# Altium schematic symbol library NNLightSwitcher_1.SCHLIB: 40 symbols (part 1 of 2)
Pins are listed as number, name and electrical type; pins without a type are passive.

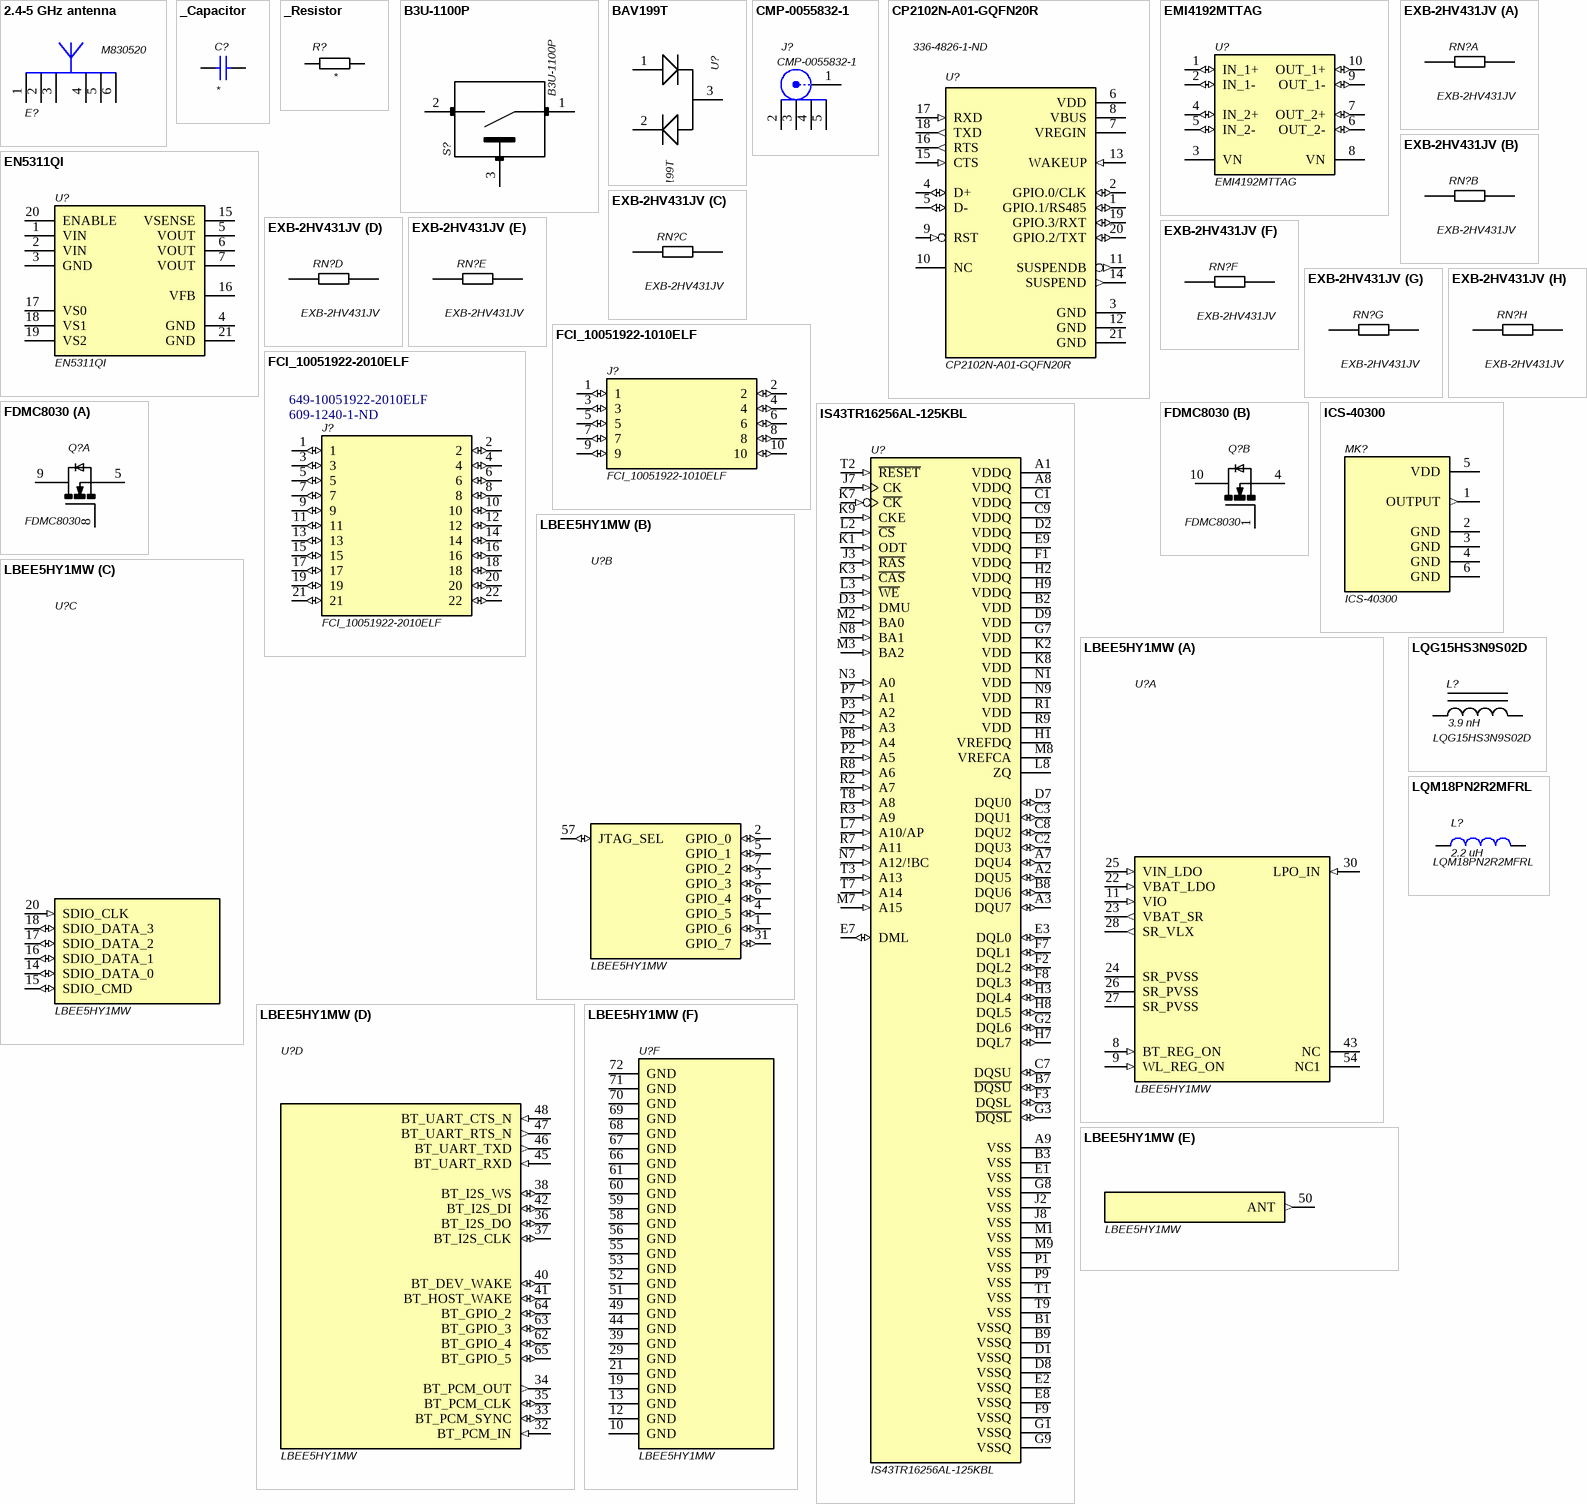
[diagram p0: symbols 2.4-5 GHz antenna to LQM18PN2R2MFRL]

## 2.4-5 GHz antenna
designator E?, comment M830520
WLAN ANTENNA 802.11, SMD; Manufacturer 1: Ethertronics; ComponentLink1Description: Datasheet URL; ComponentLink1URL: http://www.ethertronics.com/files/6014/0708/4228/Savvi_WLAN__8x3_M830510.pdf; Supplier 1: Digi-Key; Manufacturer Part Number 1: M830520; Stock 1: 10391; Pricing 1: 1=2,09000, 10=1,87400, 25=1,76800, 100=1,50630, 250=1,41440, 500=1,23760 (USD); RoHS: No; ComponentLink2URL: https://media.digikey.com/pdf/Data%20Sheets/Ethertronics/M830520.pdf?src-supplier=Digi-Key; ComponentLink2Description: https://media.digikey.com/pdf/Data%20Sheets/Ethertronics/M830520.pdf?src-supplier=Digi-Key; Supplier Part Number 1: 939-1070-1-ND
footprint Ethertronics_M830520 (SMD, 6-Leads, Body 8x3mm)
pins: 1 Feed, 2 GND (power), 3 GND (power), 4 Feed, 5, 6

## _Capacitor
designator C?, comment CC0201JRNPO8BN101  (value not drawn)
CAP, CERM, 100 pF, 25 V,+/- 5%, C0G/NP0, 0201; ComponentLink1Description: Datasheet link; ComponentLink1URL: http://www.yageo.com/documents/recent/UPY-GP_NP0_16V-to-50V_16.pdf; Value: *
footprint *0603
pins: 1, 2

## _Resistor
designator R?
0603 0.1 W Film Chip Resistor; Value: *
footprint *0603
pins: 1, 2

## B3U-1100P
designator S?
Switch Tactile N.O. SPST Projected Plunger PC Pins 0.05A 24VDC 1.47N Thru-Hole Bag; Manufacturer 1: Omron; Mechanical Life: 200000Cycles; Operating Force: 1.5N; Voltage Rating (DC): 12V; Contact Resistance: 100mR; Current Rating: 50mA; Illumination Type: Non-Illuminated,Illuminated; Switch Travel: 0.15mm; Switch Function: Off-Mom; Actuator Type: Standard; Actuator Length: 0.4mm; Ratings: Dust Proof; Supplier 1: Mouser; Manufacturer Part Number 1: B3U-1100P; Stock 1: 10341; Pricing 1: 1=1,00000, 10=0,96100, 25=0,90700, 50=0,79800, 100=0,72600, 250=0,68900, 500=0,61000, 1000=0,52600, 3500=0,51500, 10000=0,51500 (USD); RoHS: Yes; Mount: Surface Mount; Weight: 0.022g; Contact Plating: Silver; Min Operating Temperature: -25°C; Max Operating Temperature: 70°C; Throw Configuration: SPST; Packaging: Tape and Reel; Max Voltage Rating (DC): 12V; Package Quantity: 1; Electrical Life: 200000Cycles; Orientation: Straight; Termination: SMD/SMT; Max Current Rating: 50mA; Contact Current Rating: 50mA; Length: 3.15mm; Depth: 4mm; REACH SVHC: Unknown; Lead Free: Lead Free; ComponentLink1URL: https://datasheet.ciiva.com/1634/60838-1634404.pdf?src-supplier=Farnell; ComponentLink1Description: https://datasheet.ciiva.com/1634/60838-1634404.pdf?src-supplier=Farnell; ComponentLink2URL: https://datasheet.ciiva.com/30197/en-b3u-30197271.pdf?src-supplier=Onlinecomponents.com; ComponentLink2Description: https://datasheet.ciiva.com/30197/en-b3u-30197271.pdf?src-supplier=Onlinecomponents.com; ComponentLink3URL: https://datasheet.ciiva.com/22696/60838-22696216.pdf?src-supplier=Element14; ComponentLink3Description: https://datasheet.ciiva.com/22696/60838-22696216.pdf?src-supplier=Element14; ComponentLink4URL: https://datasheet.ciiva.com/2901/b3u-1110-2901097.pdf?src-supplier=Digi-Key; ComponentLink4Description: https://datasheet.ciiva.com/2901/b3u-1110-2901097.pdf?src-supplier=Digi-Key; ComponentLink5URL: https://datasheet.ciiva.com/2901/b3u-1110-2901098.pdf?src-supplier=Digi-Key; ComponentLink5Description: https://datasheet.ciiva.com/2901/b3u-1110-2901098.pdf?src-supplier=Digi-Key; ComponentLink6URL: https://datasheet.ciiva.com/2901/b3u-1110-2901099.pdf?src-supplier=Digi-Key; ComponentLink6Description: https://datasheet.ciiva.com/2901/b3u-1110-2901099.pdf?src-supplier=Digi-Key; ComponentLink7URL: https://datasheet.ciiva.com/1532/60838-1532684.pdf?src-supplier=Element14; ComponentLink7Description: https://datasheet.ciiva.com/1532/60838-1532684.pdf?src-supplier=Element14; ComponentLink8URL: https://datasheet.ciiva.com/14142/b3u-eng-datasheet-14142541.pdf?src-supplier=Distrelec; ComponentLink8Description: https://datasheet.ciiva.com/14142/b3u-eng-datasheet-14142541.pdf?src-supplier=Distrelec; ComponentLink9URL: https://datasheet.ciiva.com/16155/en-b3u-16155023.pdf?src-supplier=Onlinecomponents.com; ComponentLink9Description: https://datasheet.ciiva.com/16155/en-b3u-16155023.pdf?src-supplier=Onlinecomponents.com; Supplier Part Number 1: 653-B3U-1100P
footprint *SW_B3U-1100P
pins: 1, 2, 3

## BAV199T
designator U?
DIODE, SS, DUAL, 85V, 0.125A, SOT523; Diode Type: Standard Recovery; Forward Current If_AV_: 215mA; Repetitive Revers...; Manufacturer 1: Diodes; Manufacturer Part Number 1: BAS40-04-7-F; MF: Micro Commercial; Forward Current: 200mA; Reverse Recovery Time: 5ns; Peak Non-Repetitive Surge Current: 600mA; Max Repetitive Reverse Voltage (Vrrm): 40V; Forward Voltage: 1V; Capacitance: 5pF; Peak Reverse Current: 200nA; Power Rating: 350mW; Package: SOT-23 Micro Commercial; MP: BAV199T; Availability: Unavailable; Price: None; SnapEDA_Link: https://www.snapeda.com/parts/BAV199T/Micro%20Commercial/view-part/?ref=snap; Value: *; Supplier 1: Mouser; Stock 1: 161984; Pricing 1: 1=0,33000, 10=0,21700, 50=0,21700, 100=0,09300, 1000=0,07200, 3000=0,05400, 9000=0,04800, 10000=0,04800, 24000=0,04500 (USD); RoHS: Yes; Mount: Surface Mount; Case/Package: SOT-23; Number of Pins: 3; Weight: 0.000282oz; Contact Plating: Tin,Matte; Min Operating Temperature: -55°C; Max Operating Temperature: 125°C; Packaging: Tape and Reel; Package Quantity: 3000; Average Rectified Current: 200mA; Max Reverse Voltage (DC): 40V; Max Power Dissipation: 350mW; Max Forward Surge Current (Ifsm): 600mA; Power Dissipation: 350mW; Termination: SMD/SMT; Length: 3.05mm; Height: 1mm; Width: 1.4mm; Radiation Hardening: No; Lead Free: Lead Free; REACH SVHC: No SVHC; ComponentLink1URL: https://datasheet.ciiva.com/25946/ds11006-25946962.pdf?src-supplier=Avnet+Europe; ComponentLink1Description: https://datasheet.ciiva.com/25946/ds11006-25946962.pdf?src-supplier=Avnet+Europe; ComponentLink2URL: https://datasheet.ciiva.com/1177/ds11006-1177656.pdf?src-supplier=Element14; ComponentLink2Description: https://datasheet.ciiva.com/1177/ds11006-1177656.pdf?src-supplier=Element14; ComponentLink3URL: https://datasheet.ciiva.com/16379/ds11006-16379065.pdf?src-supplier=Future+Electronics; ComponentLink3Description: https://datasheet.ciiva.com/16379/ds11006-16379065.pdf?src-supplier=Future+Electronics; ComponentLink4URL: https://datasheet.ciiva.com/8303/ds11006-8303212.pdf?src-supplier=Avnet; ComponentLink4Description: https://datasheet.ciiva.com/8303/ds11006-8303212.pdf?src-supplier=Avnet; ComponentLink5URL: https://datasheet.ciiva.com/22695/1911827-22695788.pdf?src-supplier=Element14; ComponentLink5Description: https://datasheet.ciiva.com/22695/1911827-22695788.pdf?src-supplier=Element14; ComponentLink6URL: https://datasheet.ciiva.com/4715/ds11006-4715662.pdf?src-supplier=Mouser; ComponentLink6Description: https://datasheet.ciiva.com/4715/ds11006-4715662.pdf?src-supplier=Mouser; Supplier Part Number 1: 621-BAS40-04-F
footprint *SOT95P240X110-3N
pins: 1 ANODE, 2 CATHODE, 3 ANODE/CATHODE

## CMP-0055832-1
designator J?
Connector, SMA, Vertical, Gold, SMT; PartNumber: SMA-10V21-TGG; Manufacturer: Hus-Tsan Group Co., Ltd.; Alternate Manufacturer: 傲创; Alternate PartNumber: SMA-050710; CT: TRUE; CNHeader: FALSE; PackageReference: SMD, 4-Leads, Body 7.1x7.1mm; CompType: SMA; RoHS: Y; MountType: SMT; ComponentLink1Description: Datasheet URL; ComponentLink1URL: https://sps06.itg.ti.com/sites/KMS/crossdivteams/altium/docs/ComponentDatasheets/SMA-10V21.pdf; Publisher: Texas Instruments; LatestRevisionDate: 26/05/2017
footprint Hustsan_SMA-10V21-TGG (SMD, 4-Leads, Body 7.1x7.1mm)
footprint Hustsan_SMA-10V21-TGG (SMD, 4-Leads, Body 7.1x7.1mm)
pins: 1, 2, 3, 4, 5

## CP2102N-A01-GQFN20R
designator U?  Supplier Part Number 2: 336-4826-1-ND
Ic Bridge Usb To Uart 20qfn; Manufacturer 1: Silicon Labs; Supplier 1: Mouser; Manufacturer Part Number 1: CP2102N-A01-GQFN20R; Stock 1: 3771; Pricing 1: 1=1,33000, 10=1,31000, 25=1,28000, 50=1,26000, 100=1,23000, 250=1,21000, 500=1,19000, 1000=1,15000, 10000=1,15000 (USD); RoHS: No; ComponentLink1URL: https://www.silabs.com/documents/public/data-sheets/cp2102n-datasheet.pdf?src-supplier=Digi-Key; ComponentLink1Description: https://www.silabs.com/documents/public/data-sheets/cp2102n-datasheet.pdf?src-supplier=Digi-Key; Supplier 2: Digi-Key; Manufacturer 2: Silicon Labs; Manufacturer Part Number 2: CP2102N-A01-GQFN20R; Stock 2: 12524; Pricing 2: 1=1,33000, 25=1,28080, 100=1,23170 (USD); Supplier Part Number 1: 634-CP21NA01GQFN20R
footprint *SILABS_QFN20
pins: 1 GPIO.1/RS485 (io), 2 GPIO.0/CLK (io), 3 GND (power), 4 D+ (io), 5 D- (io), 6 VDD (power), 7 VREGIN (power), 8 VBUS (power), 9 RST (in), 10 NC, 11 SUSPENDB (out), 12 GND (power), 13 WAKEUP (in), 14 SUSPEND (out), 15 CTS (in), 16 RTS (out), 17 RXD (in), 18 TXD (out), 19 GPIO.3/RXT (io), 20 GPIO.2/TXT (io), 21 GND (power)

## EMI4192MTTAG
designator U?
Common Mode Filter with ESD Protection, -40 to 85 degC, 10-Pin WDFN, Pb-Free, Tape and Reel; Manufacturer 1: ON Semiconductor; Number of Lines: 4; Impedance: 32R; Max Current Rating: 100mA; Capacitance: 0.8pF; DC Resistance (DCR): 5R; Direction: Unidirectional; Clamping Voltage: 18V; Min Breakdown Voltage: 5.6V; Reverse Standoff Voltage: 5V; ESD Protection: Yes; Max Reverse Leakage Current: 1uA; Test Current: 1mA; ComponentLink1Description: Manufacturer URL; ComponentLink2Description: Datasheet; ComponentLink3Description: Package Specification; ComponentLink3URL: http://www.onsemi.cn/pub_link/Collateral/511BM.PDF; ComponentLink1URL: http://www.onsemi.com/; ComponentLink2URL: http://www.onsemi.cn/pub_link/Collateral/EMI4192-D.PDF; Supplier 1: Digi-Key; Manufacturer Part Number 1: EMI4192MTTAG; Stock 1: 1265; Pricing 1: 1=0,77000, 10=0,68000, 100=0,52120, 500=0,41200, 1000=0,32960 (USD); RoHS: Yes; Number of Pins: 10; Min Operating Temperature: -40°C; Max Operating Temperature: 85°C; Package Quantity: 3000; Packaging: Tape and Reel; Current: 100mA; Max DC Current: 100mA; Termination: Flat; Length: 2.5mm; Height: 0.031inch; Width: 2mm; Depth: 2mm; Radiation Hardening: No; Lead Free: Lead Free; Halogen Free: Halogen Free; ComponentLink4URL: https://datasheet.ciiva.com/6215/emi4192-d-6215568.pdf?src-supplier=Digi-Key; ComponentLink4Description: https://datasheet.ciiva.com/6215/emi4192-d-6215568.pdf?src-supplier=Digi-Key; ComponentLink5URL: https://datasheet.ciiva.com/12394/emi4192-d-117518-12394999.pdf?src-supplier=Mouser; ComponentLink5Description: https://datasheet.ciiva.com/12394/emi4192-d-117518-12394999.pdf?src-supplier=Mouser; Supplier 2: Mouser; Manufacturer 2: ON Semiconductor; Manufacturer Part Number 2: EMI4192MTTAG; Stock 2: 304; Pricing 2: 1=0,74000, 10=0,62000, 50=0,62000, 100=0,40000, 1000=0,32000, 3000=0,27100, 9000=0,26100, 10000=0,26100, 24000=0,25000, 45000=0,24700, 99000=0,24100 (USD); Supplier Part Number 1: EMI4192MTTAGOSCT-ND; Supplier Part Number 2: 863-EMI4192MTTAG
footprint ONSC-WDFN-10-511BM-01_V
pins: 1 IN_1+ (io) "CMF Channel 1+ to Connector (External)", 2 IN_1- (io) "CMF Channel 1- to Connector (External)", 3 VN (power) "Ground", 4 IN_2+ (io) "CMF Channel 1+ to Connector (External)", 5 IN_2- (io) "CMF Channel 1- to Connector (External)", 6 OUT_2- (io) "CMF Channel 2- to ASIC (Internal)", 7 OUT_2+ (io) "CMF Channel 2+ to ASIC (Internal)", 8 VN (power) "Ground", 9 OUT_1- (io) "CMF Channel 1- to ASIC (Internal)", 10 OUT_1+ (io) "CMF Channel 1+ to ASIC (Internal)"

## EN5311QI
designator U?
1A DC-DC Step-Down Converter; Manufacturer 1: Intel Altera; Output Voltage: 6V; Switching Frequency: 4MHz; Number of Outputs: 1; Efficiency: 95%; Min Input Voltage: 2.4V; Max Input Voltage: 6.6V; Max Power Dissipation: 6W; Operating Supply Current: 750nA; Min Output Voltage: 600mV; Max Output Voltage: 4.9V; Output Type: Adjustable; ComponentLink1Description: Datasheet URL; ComponentLink1URL: https://sps06.itg.ti.com/sites/KMS/crossdivteams/altium/docs/ComponentDatasheets/DPX165950DT-8148A1.pdf; Supplier 1: Mouser; Manufacturer Part Number 1: EN5311QI; Stock 1: 0; RoHS: Yes; Mount: Surface Mount; Case/Package: QFN; Number of Pins: 20; Weight: 0.002751oz; Min Operating Temperature: -40°C; Max Operating Temperature: 85°C; Output Current: 1A; Package Quantity: 1; Packaging: Cut Tape; Voltage - Output 1: 6V; Max Output Current: 1A; Features: UVLO,OCP,OTP,SCP; Min Supply Voltage: 2.4V; Length: 0.2inch; Height: 0.04inch; Width: 0.16inch; Radiation Hardening: No; REACH SVHC: No SVHC; ComponentLink2URL: https://datasheet.ciiva.com/1162/1525802-1162514.pdf?src-supplier=Element14; ComponentLink2Description: https://datasheet.ciiva.com/1162/1525802-1162514.pdf?src-supplier=Element14; ComponentLink3URL: https://datasheet.ciiva.com/26927/getdatasheetpartid-755172-26927834.pdf?src-supplier=Verical; ComponentLink3Description: https://datasheet.ciiva.com/26927/getdatasheetpartid-755172-26927834.pdf?src-supplier=Verical; ComponentLink4URL: https://datasheet.ciiva.com/29378/en5311qi-03799-29378571.pdf?src-supplier=Digi-Key; ComponentLink4Description: https://datasheet.ciiva.com/29378/en5311qi-03799-29378571.pdf?src-supplier=Digi-Key; ComponentLink5URL: https://datasheet.ciiva.com/29378/en5311qi-03799-29378573.pdf?src-supplier=Digi-Key; ComponentLink5Description: https://datasheet.ciiva.com/29378/en5311qi-03799-29378573.pdf?src-supplier=Digi-Key; Supplier Part Number 1: 884-EN5311QI
footprint *QFN_20-PIN_ATMEL_20M1
pins: 1 VIN, 2 VIN, 3 GND (power), 4 GND (power), 5 VOUT, 6 VOUT, 7 VOUT, 15 VSENSE, 16 VFB (power), 17 VS0, 18 VS1, 19 VS2, 20 ENABLE, 21 GND (power)

## EXB-2HV431JV
designator RN?
Res Thick Film Array; Value: 33 R
footprint *RESCAXE50P380X160X55-16N
part A pins: 1, 16 2
part B pins: 2 1, 15 2
part C pins: 3 1, 14 2
part D pins: 4 1, 13 2
part E pins: 5 1, 12 2
part F pins: 6 1, 11 2
part G pins: 7 1, 10 2
part H pins: 8 1, 9 2

## FCI_10051922-1010ELF
designator J?
0.50mm FFC/FPC Connectors 10CKT RA SMT ZIF CON BOTTOM CONTACT; Manufacturer 1: Amphenol FCI; Description: CONN FPC BOTTOM 10POS 0.50MM R/A; Actuator Material: Nylon,Glass,Polyamide; Number of Contacts: 10; Contact Resistance: 30mR; Current Rating: 500mA; Voltage Rating: 50V; Insulation Resistance: 100MR; Gender: Female; Pitch: 0.5mm; Supplier 1: Digi-Key; Manufacturer Part Number 1: 10051922-1010ELF; Stock 1: 3851; Pricing 1: 1=0,85000, 10=0,74400, 25=0,70080, 50=0,67140, 100=0,64230, 250=0,58388, 500=0,52550, 1000=0,46710 (USD); RoHS: Yes; Mount: Surface Mount; Contact Material: Copper Alloy,Bronze; Contact Plating: Gold; Housing Color: Natural; Housing Material: Polymer; Min Operating Temperature: -55°C; Max Operating Temperature: 85°C; Number of Rows: 1; Termination: Solder; Orientation: Right Angle; Packaging: Tape and Reel; Package Quantity: 4500; Number of Positions: 10; Contact Location: Bottom; Max Voltage Rating (AC): 50V; Max Voltage Rating (DC): 50V; Length: 7.5mm; Depth: 3.4mm; Width: 3.4mm; Radiation Hardening: No; REACH SVHC: No SVHC; Lead Free: Lead Free; Flammability Rating: UL94 V-0; ComponentLink1URL: https://datasheet.ciiva.com/1437/10051922-1437495.pdf?src-supplier=Element14; ComponentLink1Description: https://datasheet.ciiva.com/1437/10051922-1437495.pdf?src-supplier=Element14; ComponentLink2URL: https://datasheet.ciiva.com/15176/getdatasheetpartid-131484-15176375.pdf?src-supplier=Verical; ComponentLink2Description: https://datasheet.ciiva.com/15176/getdatasheetpartid-131484-15176375.pdf?src-supplier=Verical; ComponentLink3URL: https://datasheet.ciiva.com/670/10051922-670057.pdf?src-supplier=Digi-Key; ComponentLink3Description: https://datasheet.ciiva.com/670/10051922-670057.pdf?src-supplier=Digi-Key; ComponentLink4URL: https://datasheet.ciiva.com/670/10051922-670058.pdf?src-supplier=Digi-Key; ComponentLink4Description: https://datasheet.ciiva.com/670/10051922-670058.pdf?src-supplier=Digi-Key; ComponentLink5URL: https://datasheet.ciiva.com/5136/fcicmd-catcustomerdrawingproductname-10051922-1010elf-5136554.pdf?src-supplier=Mouser; ComponentLink5Description: https://datasheet.ciiva.com/5136/fcicmd-catcustomerdrawingproductname-10051922-1010elf-5136554.pdf?src-supplier=Mouser; ComponentLink6URL: https://datasheet.ciiva.com/670/10051922-670059.pdf?src-supplier=Digi-Key; ComponentLink6Description: https://datasheet.ciiva.com/670/10051922-670059.pdf?src-supplier=Digi-Key; ComponentLink7URL: https://datasheet.ciiva.com/10367/10051922-10367679.pdf?src-supplier=Avnet; ComponentLink7Description: https://datasheet.ciiva.com/10367/10051922-10367679.pdf?src-supplier=Avnet; Supplier 2: Mouser; Manufacturer 2: Amphenol FCI; Manufacturer Part Number 2: 10051922-1010ELF; Stock 2: 5616; Pricing 2: 1=0,85000, 10=0,67200, 50=0,67200, 100=0,64300, 250=0,58400, 500=0,52600, 1000=0,46800, 2500=0,40300, 4500=0,38500, 9000=0,34600, 10000=0,34600 (USD); Supplier Part Number 1: 609-1234-1-ND; Supplier Part Number 2: 649-10051922-1010ELF
footprint *FCI_10051922-1010ELF (Footprint not found)
pins: 1 (io), 2 (io), 3 (io), 4 (io), 5 (io), 6 (io), 7 (io), 8 (io), 9 (io), 10 (io)

## FCI_10051922-2010ELF
designator J?  Supplier Part Number 1: 609-1240-1-ND  Supplier Part Number 2: 649-10051922-2010ELF
0.50mm FFC/FPC Connectors 20CKT RA SMT ZIF CON BOTTOM CONTACT; Manufacturer 1: Amphenol FCI; Description: CONN FPC BOTTOM 20POS 0.50MM R/A; Actuator Material: Nylon,Glass,Polyamide; Number of Contacts: 20; Contact Resistance: 30mR; Current Rating: 500mA; Voltage Rating: 50V; Insulation Resistance: 100MR; Pitch: 0.5mm; Supplier 1: Digi-Key; Manufacturer Part Number 1: 10051922-2010ELF; Stock 1: 913; Pricing 1: 1=0,73000, 10=0,64500, 25=0,60760, 50=0,58220, 100=0,55680, 250=0,50624, 500=0,45560, 1000=0,40498 (USD); RoHS: Yes; Mount: Surface Mount; Contact Material: Copper Alloy,Bronze,Copper; Contact Plating: Gold; Housing Color: Natural; Housing Material: Polymer; Min Operating Temperature: -55°C; Max Operating Temperature: 85°C; Number of Rows: 1; Termination: Solder; Orientation: Right Angle; Packaging: Tape and Reel; Package Quantity: 4500; Number of Positions: 20; Contact Location: Bottom; Max Voltage Rating (AC): 50V; Max Voltage Rating (DC): 50V; Length: 12.5mm; Depth: 3.4mm; Width: 3.4mm; Radiation Hardening: No; REACH SVHC: No SVHC; Lead Free: Lead Free; Flammability Rating: UL94 V-0; ComponentLink1URL: https://datasheet.ciiva.com/673/10051922-673159.pdf?src-supplier=Digi-Key; ComponentLink1Description: https://datasheet.ciiva.com/673/10051922-673159.pdf?src-supplier=Digi-Key; ComponentLink2URL: https://datasheet.ciiva.com/1437/10051922-1437497.pdf?src-supplier=Element14; ComponentLink2Description: https://datasheet.ciiva.com/1437/10051922-1437497.pdf?src-supplier=Element14; ComponentLink3URL: https://datasheet.ciiva.com/16658/10051922-16658794.pdf?src-supplier=Avnet+Europe; ComponentLink3Description: https://datasheet.ciiva.com/16658/10051922-16658794.pdf?src-supplier=Avnet+Europe; ComponentLink4URL: https://datasheet.ciiva.com/673/10051922-673158.pdf?src-supplier=Digi-Key; ComponentLink4Description: https://datasheet.ciiva.com/673/10051922-673158.pdf?src-supplier=Digi-Key; Supplier 2: Mouser; Manufacturer 2: Amphenol FCI; Manufacturer Part Number 2: 10051922-2010ELF; Stock 2: 2006; Pricing 2: 1=0,73000, 10=0,58300, 50=0,58300, 100=0,50700, 500=0,45600, 1000=0,40500, 2500=0,34600, 9000=0,30700, 10000=0,30700, 22500=0,30000 (USD)
footprint *FCI_10051922-2010ELF
pins: 1 (io), 2 (io), 3 (io), 4 (io), 5 (io), 6 (io), 7 (io), 8 (io), 9 (io), 10 (io), 11 (io), 12 (io), 13 (io), 14 (io), 15 (io), 16 (io), 17 (io), 18 (io), 19 (io), 20 (io), 21 (io), 22 (io)

## FDMC8030
designator Q?
Mosfet Array 2 N-Channel (Dual) 40V 12A 800mW Surface Mount 8-Power33 (3x3); Manufacturer 1: ON Semiconductor / Fairchild; Rise Time: 3ns; Turn-On Delay Time: 7ns; Turn-Off Delay Time: 19ns; Gate to Source Voltage (Vgs): 12V; Rds On Max: 10mR; Input Capacitance: 1.975nF; Number of Elements: 1; Supplier 1: Mouser; Manufacturer Part Number 1: FDMC8030; Stock 1: 20975; Pricing 1: 1=0,85000, 10=0,72800, 50=0,72800, 100=0,56000, 500=0,49500, 1000=0,39000, 3000=0,34600, 9000=0,33300, 10000=0,33300, 24000=0,32300, 45000=0,31300 (USD); RoHS: Yes; Mount: Surface Mount; Number of Pins: 8; Weight: 0.196g; Min Operating Temperature: -55°C; Max Operating Temperature: 150°C; Continuous Drain Current (ID): 12A; Packaging: Tape and Reel; Package Quantity: 3000; Drain to Source Breakdown Voltage: 40V; Drain to Source Resistance: 10mR; Power Dissipation: 800mW; Drain to Source Voltage (Vdss): 40V; Max Power Dissipation: 800mW; Fall Time: 3ns; Element Configuration: Dual; FET Type: 2 N-Channel; Length: 3mm; Height: 0.75mm; Width: 3mm; Radiation Hardening: No; ComponentLink1URL: https://datasheet.ciiva.com/11175/fdmc8030-11175489.pdf?src-supplier=Avnet; ComponentLink1Description: https://datasheet.ciiva.com/11175/fdmc8030-11175489.pdf?src-supplier=Avnet; ComponentLink2URL: https://datasheet.ciiva.com/4439/fdmc8030-103806-4439986.pdf?src-supplier=Mouser; ComponentLink2Description: https://datasheet.ciiva.com/4439/fdmc8030-103806-4439986.pdf?src-supplier=Mouser; ComponentLink3URL: https://datasheet.ciiva.com/15044/fdmc8030-15044346.pdf?src-supplier=Digi-Key; ComponentLink3Description: https://datasheet.ciiva.com/15044/fdmc8030-15044346.pdf?src-supplier=Digi-Key; Supplier Part Number 1: 512-FDMC8030
footprint *TRANS_FDMC8030
part A pins: 5 S2, 8 G2, 9 D2
part B pins: 1 G1, 4 S1, 10 D1

## ICS-40300
designator MK?
High SPL Analog MEMS Microphone with Extended Low Feq Response; Manufacturer 1: TDK InvenSense; Shape: Rectangular; Direction: Omnidirectional; Impedance: 200R; Operating Supply Current: 250uA; Max Supply Voltage: 3.63V; Min Supply Voltage: 1.5V; Supplier 1: Digi-Key; Manufacturer Part Number 1: ICS-40300; Stock 1: 3930; Pricing 1: 1=3,00000, 10=2,48900, 25=2,29760, 50=2,15880, 100=2,02510, 500=1,73498, 1000=1,71600 (USD); RoHS: Yes; Packaging: Tape and Reel; Termination: Solder; Output Type: Analog; Length: 4.72mm; Height: 3.5mm; Width: 3.76mm; Lead Free: Lead Free; ComponentLink1URL: http://43zrtwysvxb2gf29r5o0athu.wpengine.netdna-cdn.com/wp-content/uploads/2015/02/DS-ICS-40300-00-v1.1.pdf?src-supplier=Avnet+Asia; ComponentLink1Description: http://43zrtwysvxb2gf29r5o0athu.wpengine.netdna-cdn.com/wp-content/uploads/2015/02/DS-ICS-40300-00-v1.1.pdf?src-supplier=Avnet+Asia; ComponentLink2URL: https://www.invensense.com/wp-content/uploads/2015/02/DS-ICS-40300-00-v1.1.pdf?src-supplier=Digi-Key; ComponentLink2Description: https://www.invensense.com/wp-content/uploads/2015/02/DS-ICS-40300-00-v1.1.pdf?src-supplier=Digi-Key; Supplier Part Number 1: 1428-1027-1-ND
footprint *MIC_ICS-40300
pins: 1 OUTPUT (out), 2 GND (power), 3 GND (power), 4 GND (power), 5 VDD (power), 6 GND (power)

## IS43TR16256AL-125KBL
designator U?
4G, 1.35V, DDR3L, 256Mx16, 1600MT/s @ 11-11-11, 96 ball BGA _9mm x13mm_ RoHS; Manufacturer 1: ISSI; Max Frequency: 800MHz; Max Supply Voltage: 1.45V; Min Supply Voltage: 1.283V; Interface: Parallel; Memory Type: RAM,DDR3 SDRAM; Data Bus Width: 16b; Memory Size: 4Gb; Access Time: 255ps; Supplier 1: Digi-Key; Manufacturer Part Number 1: IS43TR16256AL-125KBL; Stock 1: 6597; Pricing 1: 1=8,90000, 10=8,18800, 25=8,01840, 50=7,99000, 190=7,16784, 380=6,95047, 570=6,61028, 1140=6,37875 (USD); RoHS: Yes; Case/Package: TFBGA; Number of Pins: 96; Min Operating Temperature: 0°C; Max Operating Temperature: 70°C; Package Quantity: 190; Packaging: Tray; Frequency: 800MHz; ComponentLink1URL: https://datasheet.ciiva.com/18617/43-46tr16256a-85120al-18617927.pdf?src-supplier=Digi-Key; ComponentLink1Description: https://datasheet.ciiva.com/18617/43-46tr16256a-85120al-18617927.pdf?src-supplier=Digi-Key; Supplier 2: Mouser; Manufacturer 2: ISSI; Manufacturer Part Number 2: IS43TR16256AL-125KBL; Stock 2: 3561; Pricing 2: 1=8,90000, 10=8,19000, 25=8,00000, 50=8,00000, 100=7,17000, 250=6,96000, 500=6,61000, 1000=6,61000, 10000=6,61000 (USD); Supplier Part Number 1: 706-1207-ND; Supplier Part Number 2: 870-43T16256AL125KBL
footprint *BGA96C80P9X16_900X1300X120_IS43TR16256AL-125KBL(Primary)
pins: A1 VDDQ (power), A2 DQU5 (io), A3 DQU7 (io), A7 DQU4 (io), A8 VDDQ (power), A9 VSS (power), B1 VSSQ (power), B2 VDD (power), B3 VSS (power), B7 ~{DQSU} (io), B8 DQU6 (io), B9 VSSQ (power), C1 VDDQ (power), C2 DQU3 (io), C3 DQU1 (io), C7 DQSU (io), C8 DQU2 (io), C9 VDDQ (power), D1 VSSQ (power), D2 VDDQ (power), D3 DMU (in), D7 DQU0 (io), D8 VSSQ (power), D9 VDD (power), E1 VSS (power), E2 VSSQ (power), E3 DQL0 (io), E7 DML (io), E8 VSSQ (power), E9 VDDQ (power), F1 VDDQ (power), F2 DQL2 (io), F3 DQSL (io), F7 DQL1 (io), F8 DQL3 (io), F9 VSSQ (power), G1 VSSQ (power), G2 DQL6 (io), G3 ~{DQSL} (io), G7 VDD (power), G8 VSS (power), G9 VSSQ (power), H1 VREFDQ (power), H2 VDDQ (power), H3 DQL4 (io), H7 DQL7 (io), H8 DQL5 (io), H9 VDDQ (power), J2 VSS (power), J3 ~{RAS} (in), J7 CK (in), J8 VSS (power), K1 ODT (in), K2 VDD (power), K3 ~{CAS} (in), K7 ~{CK} (in), K8 VDD (power), K9 CKE (in), L2 ~{CS} (in), L3 ~{WE} (in), L7 A10/AP (in), L8 ZQ (power), M1 VSS (power), M2 BA0 (in), M3 BA2 (in), M7 A15 (in), M8 VREFCA (power), M9 VSS (power), N1 VDD (power), N2 A3 (in), N3 A0 (in), N7 A12/!BC (in), N8 BA1 (in), N9 VDD (power), P1 VSS (power), P2 A5 (in), P3 A2 (in), P7 A1 (in), P8 A4 (in), P9 VSS (power), R1 VDD (power), R2 A7 (in), R3 A9 (in), R7 A11 (in), R8 A6 (in), R9 VDD (power), T1 VSS (power), T2 ~{RESET} (in), T3 A13 (in), T7 A14 (in), T8 A8 (in), T9 VSS (power)

## LBEE5HY1MW
designator U?
Dual Band WiFi 11a/b/g/n/ac with Bluetooth 5.0 Module; Manufacturer 1: Murata; Manufacturer Part Number 1: LBEE5HY1MW-230; Supplier 1: Digi-Key; Stock 1: 946; Pricing 1: 1=15,66000, 10=14,16500, 25=13,04640, 100=11,92800, 250=11,18252, 500=10,43700, 1000=9,91515 (USD); RoHS: No; Supplier 2: Mouser; Manufacturer 2: Murata; Manufacturer Part Number 2: LBEE5HY1MW-230; Stock 2: 212; Pricing 2: 1=15,62000, 10=14,20000, 25=13,14000, 50=13,14000, 100=12,43000, 250=10,65000, 1000=10,65000, 10000=10,65000 (USD); Supplier Part Number 1: 490-18383-1-ND; Supplier Part Number 2: 81-LBEH5HY1MW-230
footprint 1MW LGA
part A pins: 8 BT_REG_ON (in), 9 WL_REG_ON (in), 11 VIO (in), 22 VBAT_LDO (in), 23 VBAT_SR (out), 24 SR_PVSS, 25 VIN_LDO (in), 26 SR_PVSS, 27 SR_PVSS, 28 SR_VLX (out), 30 LPO_IN (in), 43 NC, 54 NC1
part B pins: 1 GPIO_6 (io), 2 GPIO_0 (io), 3 GPIO_3 (io), 4 GPIO_5 (io), 5 GPIO_1 (io), 6 GPIO_4 (io), 7 GPIO_2 (io), 31 GPIO_7 (io), 57 JTAG_SEL (io)
part C pins: 14 SDIO_DATA_0 (io), 15 SDIO_CMD (io), 16 SDIO_DATA_1 (io), 17 SDIO_DATA_2 (io), 18 SDIO_DATA_3 (io), 20 SDIO_CLK (in)
part D pins: 32 BT_PCM_IN (in), 33 BT_PCM_SYNC (io), 34 BT_PCM_OUT (out), 35 BT_PCM_CLK (io), 36 BT_I2S_DO (io), 37 BT_I2S_CLK (io), 38 BT_I2S_WS (io), 40 BT_DEV_WAKE (io), 41 BT_HOST_WAKE (io), 42 BT_I2S_DI (io), 45 BT_UART_RXD (in), 46 BT_UART_TXD (out), 47 BT_UART_RTS_N (out), 48 BT_UART_CTS_N (in), 62 BT_GPIO_4 (io), 63 BT_GPIO_3 (io), 64 BT_GPIO_2 (io), 65 BT_GPIO_5 (io)
part E pins: 50 ANT (out)
part F pins: 10 GND, 12 GND, 13 GND, 19 GND, 21 GND, 29 GND, 39 GND, 44 GND, 49 GND, 51 GND, 52 GND, 53 GND, 55 GND, 56 GND, 58 GND, 59 GND, 60 GND, 61 GND, 66 GND, 67 GND, 68 GND, 69 GND, 70 GND, 71 GND, 72 GND

## LQG15HS3N9S02D
designator L?  value 3.9 nH
Inductor, Multilayer, Air Core, 3.9 nH, 0.75 A, 0.14 ohm, SMD; Manufacturer 1: Murata; Current Rating: 300mA; Shielding: Unshielded; Q Factor: 8; Self Resonant Frequency: 6GHz; Inductance: 3.9nH; DC Resistance (DCR): 180mR; Test Frequency: 100MHz; ComponentLink1Description: Datasheet link; ComponentLink1URL: https://search.murata.co.jp/Ceramy/image/img/P02/JELF243B-0010.pdf; Supplier 1: Digi-Key; Manufacturer Part Number 1: LQG15HS3N9S02D; Stock 1: 48113; Pricing 1: 1=0,10000, 10=0,06100, 100=0,04040, 500=0,03366, 1000=0,02827, 2500=0,02423 (USD); RoHS: Yes; Mount: Surface Mount; Case/Package: 0402; Core Material: Air; Case Code (Metric): 1005; Case Code (Imperial): 0402; Min Operating Temperature: -55°C; Max Operating Temperature: 125°C; Package Quantity: 10000; Packaging: Tape and Reel; Max DC Current: 300mA; Termination: SMD/SMT; DC Current: 300mA; Military Standard: Not; Length: 1mm; Height: 0.5mm; Width: 0.02inch; Height - Seated (Max): 0.022inch; Depth: 0.55mm; Radiation Hardening: No; Lead Free: Lead Free; ComponentLink2URL: https://datasheet.ciiva.com/11799/0900766b8090d685-11799093.pdf?src-supplier=RSComponents; ComponentLink2Description: https://datasheet.ciiva.com/11799/0900766b8090d685-11799093.pdf?src-supplier=RSComponents; ComponentLink3URL: https://datasheet.ciiva.com/1038/l0075s0083lqg15hs-1038128.pdf?src-supplier=Digi-Key; ComponentLink3Description: https://datasheet.ciiva.com/1038/l0075s0083lqg15hs-1038128.pdf?src-supplier=Digi-Key; ComponentLink4URL: https://datasheet.ciiva.com/1038/l0075s0083lqg15hs-1038129.pdf?src-supplier=Digi-Key; ComponentLink4Description: https://datasheet.ciiva.com/1038/l0075s0083lqg15hs-1038129.pdf?src-supplier=Digi-Key; ComponentLink5URL: https://datasheet.ciiva.com/8509/l0075s0083lqg15hs-8509708.pdf?src-supplier=Avnet; ComponentLink5Description: https://datasheet.ciiva.com/8509/l0075s0083lqg15hs-8509708.pdf?src-supplier=Avnet; ComponentLink6URL: https://datasheet.ciiva.com/1038/l0075s0083lqg15hs-1038127.pdf?src-supplier=Digi-Key; ComponentLink6Description: https://datasheet.ciiva.com/1038/l0075s0083lqg15hs-1038127.pdf?src-supplier=Digi-Key; Supplier 2: Mouser; Manufacturer 2: Murata; Manufacturer Part Number 2: LQG15HS3N9S02D; Stock 2: 63763; Pricing 2: 1=0,10000, 10=0,06100, 50=0,06100, 100=0,04000, 500=0,03400, 1000=0,02800, 2500=0,02100, 10000=0,01900, 20000=0,01800, 50000=0,01700 (USD); Supplier Part Number 1: 490-2617-1-ND; Supplier Part Number 2: 81-LQG15HS3N9S02D
footprint *0603
pins: 1, 2

## LQM18PN2R2MFRL
designator L?  value 2.2 uH
Inductor Power Chip Shielded Multi-Layer 2.2uH 20% 1MHz Ferrite 750mA 375mOhm DCR 0603 T/R; Manufacturer 1: Murata; Self Resonant Frequency: 70MHz; DC Resistance (DCR): 375mR; Supplier 1: Digi-Key; Manufacturer Part Number 1: LQM18PN2R2MFRL; Stock 1: 15081; Pricing 1: 1=0,42000, 10=0,37000, 100=0,25430, 500=0,21728, 1000=0,16643 (USD); RoHS: Yes; Mount: Surface Mount; Case/Package: 0603; Weight: 0.000141oz; Core Material: Ferrite; Case Code (Metric): 1608; Case Code (Imperial): 0603; Min Operating Temperature: -40°C; Max Operating Temperature: 85°C; Package Quantity: 4000; Packaging: Tape and Reel; Tolerance: 20%; Current Rating: 750mA; Shielding: Shielded; Inductance: 2.2uH; Test Frequency: 1MHz; DC Current: 750mA; Military Standard: Not; Termination: SMD/SMT; Max DC Current: 750mA; Length: 0.063inch; Height: 0.8mm; Width: 0.031inch; Height - Seated (Max): 0.037inch; Depth: 0.95mm; Lead Free: Lead Free; ComponentLink1URL: https://datasheet.ciiva.com/29691/o05e-29691382.pdf?src-supplier=Digi-Key; ComponentLink1Description: https://datasheet.ciiva.com/29691/o05e-29691382.pdf?src-supplier=Digi-Key; Supplier 2: Mouser; Manufacturer 2: Murata; Manufacturer Part Number 2: LQM18PN2R2MFRL; Stock 2: 12449; Pricing 2: 1=0,42000, 10=0,37000, 50=0,37000, 100=0,25400, 500=0,21700, 1000=0,16600, 4000=0,13700, 8000=0,12500, 10000=0,12500, 24000=0,12100, 48000=0,11500 (USD); Supplier Part Number 1: 490-10764-1-ND; Supplier Part Number 2: 81-LQM18PN2R2MFRL
footprint *0603
pins: 1, 2

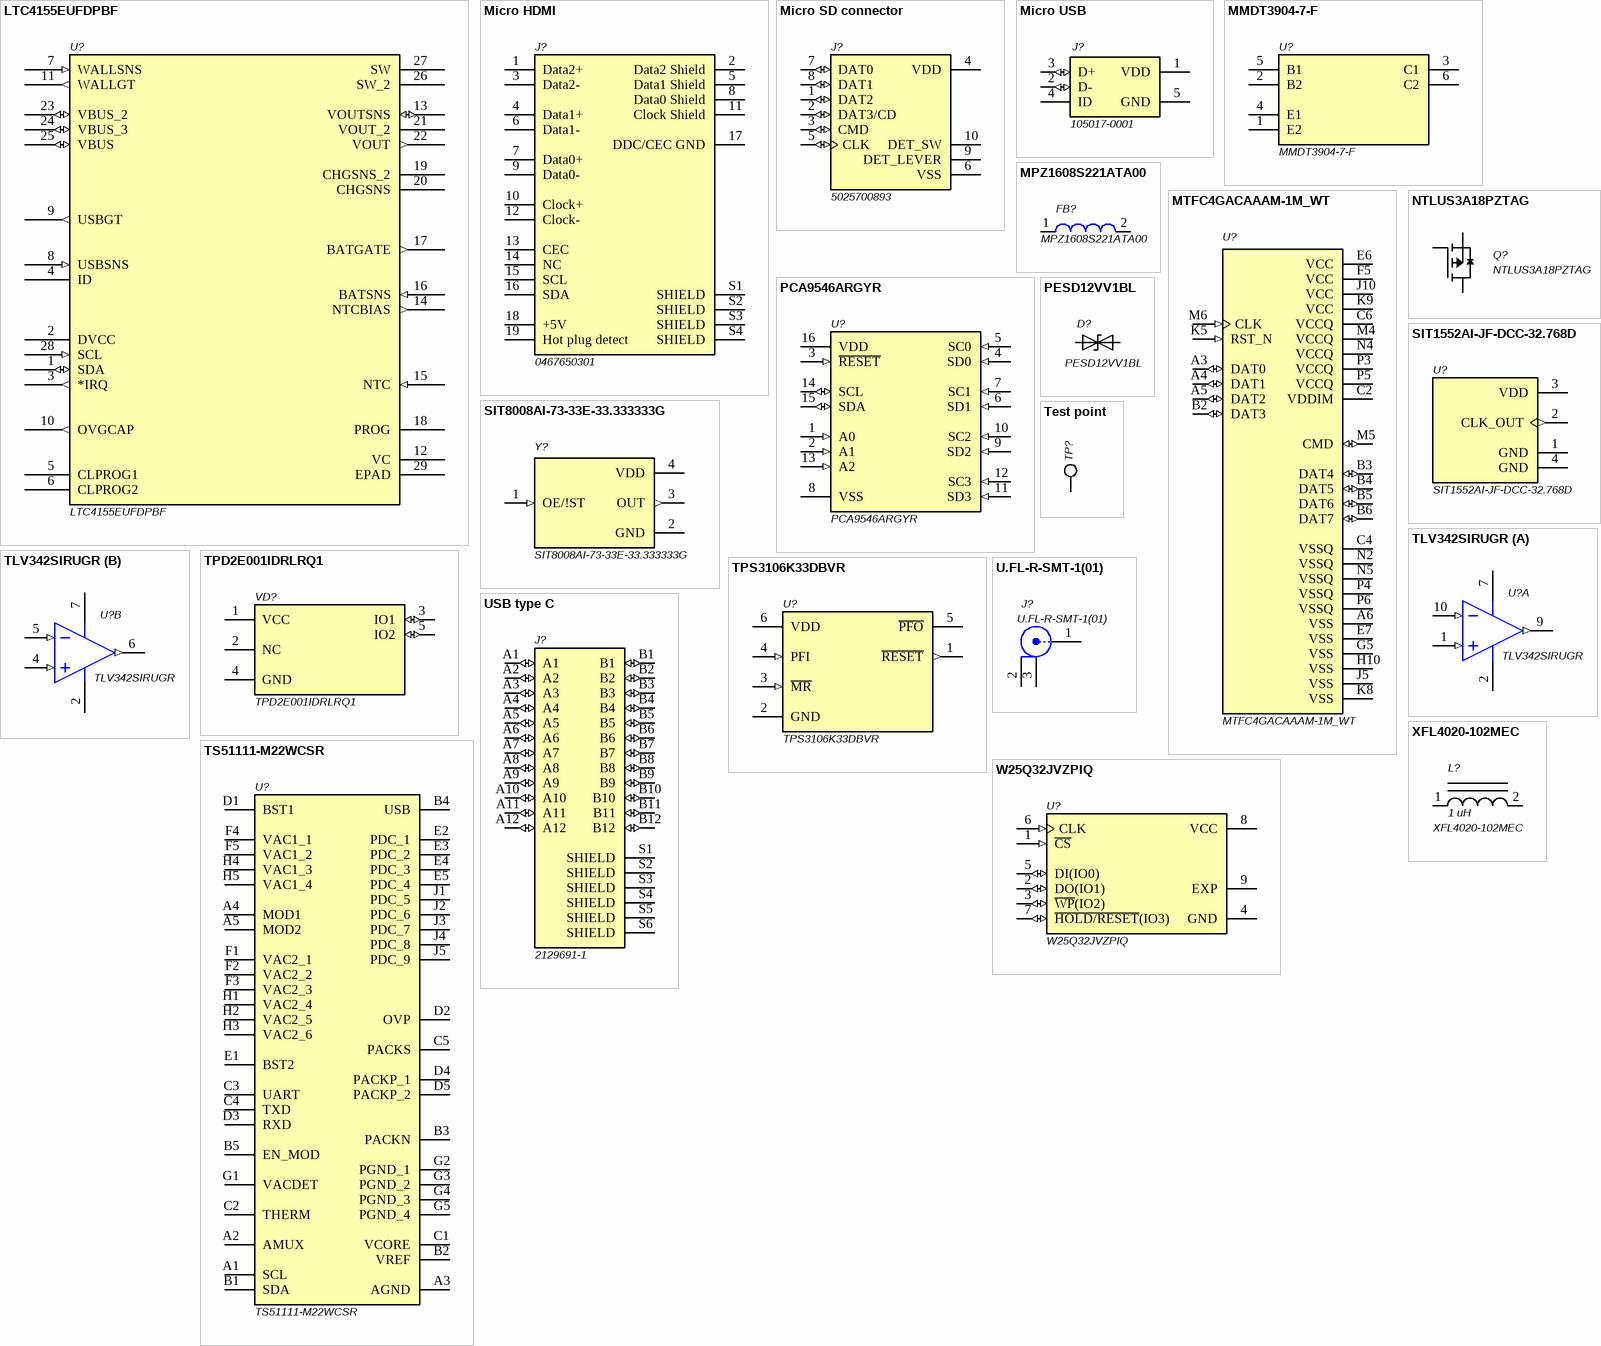
[diagram p1: symbols LTC4155EUFDPBF to XFL4020-102MEC]

## LTC4155EUFDPBF
designator U?
LTC4155 - Dual Input Power Manager/ 3.5A Li-Ion Battery Charger with I2C Control and USB OTG; Manufacturer 1: Analog Devices / Linear Technology; Manufacturer Part Number 1: LTC4155EUFD#PBF; Number of Cells: 1; Output Voltage: 4.35V; Max Supply Voltage: 5.5V; Number of Outputs: 2; Supplier 1: Digi-Key; Stock 1: 2605; Pricing 1: 1=7,14000, 25=4,74080, 100=3,92000, 250=3,72400, 500=3,64000 (USD); RoHS: Yes; Case/Package: QFN; Number of Pins: 28; Min Operating Temperature: -40°C; Max Operating Temperature: 125°C; Min Supply Voltage: 4.35V; Package Quantity: 73; Packaging: Rail/Tube; Max Input Voltage: 5.5V; Min Input Voltage: 4.35V; Max Charge Current: 3.5A; Length: 5mm; Radiation Hardening: No; REACH SVHC: No SVHC; Lead Free: Lead Free; ComponentLink1URL: https://datasheet.ciiva.com/1140/1712322-1140048.pdf?src-supplier=Farnell; ComponentLink1Description: https://datasheet.ciiva.com/1140/1712322-1140048.pdf?src-supplier=Farnell; ComponentLink2URL: https://datasheet.ciiva.com/1145/1563219-1145027.pdf?src-supplier=Newark; ComponentLink2Description: https://datasheet.ciiva.com/1145/1563219-1145027.pdf?src-supplier=Newark; ComponentLink3URL: https://datasheet.ciiva.com/15114/getdatasheetpartid-472825-15114764.pdf?src-supplier=Verical; ComponentLink3Description: https://datasheet.ciiva.com/15114/getdatasheetpartid-472825-15114764.pdf?src-supplier=Verical; ComponentLink4URL: https://datasheet.ciiva.com/1137/1712322-1137501.pdf?src-supplier=Element14; ComponentLink4Description: https://datasheet.ciiva.com/1137/1712322-1137501.pdf?src-supplier=Element14; ComponentLink5URL: https://datasheet.ciiva.com/1934/39952-1934203.pdf?src-supplier=Digi-Key; ComponentLink5Description: https://datasheet.ciiva.com/1934/39952-1934203.pdf?src-supplier=Digi-Key; Supplier Part Number 1: LTC4155EUFD#PBF-ND
footprint *QFN-28_UFD
pins: 1 SDA (io), 2 DVCC (power), 3 *IRQ (out), 4 ID, 5 CLPROG1, 6 CLPROG2, 7 WALLSNS (in), 8 USBSNS (in), 9 USBGT (out), 10 OVGCAP (out), 11 WALLGT (out), 12 VC, 13 VOUTSNS (io), 14 NTCBIAS (out), 15 NTC (in), 16 BATSNS (in), 17 BATGATE (out), 18 PROG, 19 CHGSNS_2, 20 CHGSNS, 21 VOUT_2, 22 VOUT (out), 23 VBUS_2 (io), 24 VBUS_3 (io), 25 VBUS (io), 26 SW_2, 27 SW, 28 SCL (in), 29 EPAD

## Micro HDMI
designator J?, comment 0467650301
Conn Micro HDMI RCP 19 POS 0.4mm Solder RA SMD 19 Terminal 1 Port Micro HDMI Embossed T/R; Manufacturer 1: Molex; Manufacturer Part Number 1: 46765-0301; Number of Contacts: 19; Gender: Receptacle; Number of Ports: 1; Supplier 1: Mouser; Stock 1: 3234; Pricing 1: 1=1,66000, 10=1,56000, 25=1,49000, 50=1,42000, 100=1,29000, 250=1,19000, 500=1,02000, 1000=0,94500, 2000=0,89800, 10000=0,89800 (USD); RoHS: Yes; Mount: Surface Mount,Horizontal; Contact Material: Copper Alloy; Contact Plating: Gold; Number of Terminals: 19; Housing Material: Thermoplastic; Packaging: Tape and Reel; Package Quantity: 4000; Connector Type: HDMI; Termination: Solder; Orientation: Right Angle; Features: Shielded; Length: 6.5mm; Pitch: 0.4mm; Depth: 7.5mm; Radiation Hardening: No; ComponentLink1URL: https://datasheet.ciiva.com/6731/467651001-sd-6731010.pdf?src-supplier=Digi-Key; ComponentLink1Description: https://datasheet.ciiva.com/6731/467651001-sd-6731010.pdf?src-supplier=Digi-Key; ComponentLink2URL: https://datasheet.ciiva.com/10945/0467650301-io-connectors-10945240.pdf?src-supplier=Avnet; ComponentLink2Description: https://datasheet.ciiva.com/10945/0467650301-io-connectors-10945240.pdf?src-supplier=Avnet; Supplier Part Number 1: 538-46765-0301
footprint MOLEX_0467650301_0467650301(Primary)
pins: 1 Data2+, 2 Data2 Shield, 3 Data2-, 4 Data1+, 5 Data1 Shield, 6 Data1-, 7 Data0+, 8 Data0 Shield, 9 Data0-, 10 Clock+, 11 Clock Shield, 12 Clock-, 13 CEC, 14 NC, 15 SCL, 16 SDA, 17 DDC/CEC GND, 18 +5V, 19 Hot plug detect, S1 SHIELD, S2 SHIELD, S3 SHIELD, S4 SHIELD

## Micro SD connector
designator J?, comment 5025700893
1.10mm Pitch microSD Memory Card Connector%2C Normal Mount Surface Mount%2C Push-Push Type; Производитель: Molex; Группа: Разъём; Current Rating: 500mA; Voltage Rating (AC): 10V; Max Voltage Rating (DC): 1.01kV; Gender: Female; Number of Contacts: 8; Pitch: 1.1mm; Value: 5025700893; Корпус: *; Supplier 1: Digi-Key; Manufacturer 1: Molex; Manufacturer Part Number 1: 5025700893; Stock 1: 14343; Pricing 1: 1=3,97000, 10=3,81200, 25=3,49440, 50=3,33560, 100=3,17680, 250=2,77972, 500=2,70028 (USD); RoHS: Yes; Mount: Surface Mount,Standard; Contact Material: Copper Alloy,Copper; Contact Plating: Gold; Housing Material: Polymer; Min Operating Temperature: -25°C; Max Operating Temperature: 85°C; Packaging: Tape and Reel; Number of Rows: 1; Package Quantity: 1; Connector Type: Connector; Termination: SMD/SMT; Orientation: Right Angle; Number of Circuits: 8; Length: 13.8mm; Height: 1.8mm; Width: 1.8mm; Depth: 15.5mm; Radiation Hardening: No; REACH SVHC: Unknown; Halogen Free: Low Halogen; Lead Free: Lead Free; ComponentLink1URL: https://datasheet.ciiva.com/684/5025700893-sd-684306.pdf?src-supplier=Digi-Key; ComponentLink1Description: https://datasheet.ciiva.com/684/5025700893-sd-684306.pdf?src-supplier=Digi-Key; ComponentLink2URL: https://datasheet.ciiva.com/4581/5025700893-memory-card-socket-179363-4581107.pdf?src-supplier=Mouser; ComponentLink2Description: https://datasheet.ciiva.com/4581/5025700893-memory-card-socket-179363-4581107.pdf?src-supplier=Mouser; ComponentLink3URL: https://datasheet.ciiva.com/16547/5025700893-memory-card-socket-16547219.pdf?src-supplier=Avnet+Europe; ComponentLink3Description: https://datasheet.ciiva.com/16547/5025700893-memory-card-socket-16547219.pdf?src-supplier=Avnet+Europe; ComponentLink4URL: https://datasheet.ciiva.com/1105/1630840-1105304.pdf?src-supplier=Element14; ComponentLink4Description: https://datasheet.ciiva.com/1105/1630840-1105304.pdf?src-supplier=Element14; ComponentLink5URL: https://datasheet.ciiva.com/11755/0900766b80f7529e-11755048.pdf?src-supplier=RSComponents; ComponentLink5Description: https://datasheet.ciiva.com/11755/0900766b80f7529e-11755048.pdf?src-supplier=RSComponents; ComponentLink6URL: https://datasheet.ciiva.com/15174/getdatasheetpartid-321553-15174794.pdf?src-supplier=Verical; ComponentLink6Description: https://datasheet.ciiva.com/15174/getdatasheetpartid-321553-15174794.pdf?src-supplier=Verical; ComponentLink7URL: https://datasheet.ciiva.com/1104/ps-502570-001-1104669.pdf?src-supplier=Element14; ComponentLink7Description: https://datasheet.ciiva.com/1104/ps-502570-001-1104669.pdf?src-supplier=Element14; ComponentLink8URL: https://datasheet.ciiva.com/684/5025700893-sd-684307.pdf?src-supplier=Digi-Key; ComponentLink8Description: https://datasheet.ciiva.com/684/5025700893-sd-684307.pdf?src-supplier=Digi-Key; ComponentLink9URL: https://datasheet.ciiva.com/684/5025700893-sd-684308.pdf?src-supplier=Digi-Key; ComponentLink9Description: https://datasheet.ciiva.com/684/5025700893-sd-684308.pdf?src-supplier=Digi-Key; ComponentLink10URL: https://datasheet.ciiva.com/16469/5025700893-memory-card-socket-16469082.pdf?src-supplier=Avnet+Asia; ComponentLink10Description: https://datasheet.ciiva.com/16469/5025700893-memory-card-socket-16469082.pdf?src-supplier=Avnet+Asia; ComponentLink11URL: https://datasheet.ciiva.com/3121/5025700893-memory-card-socket-3121179.pdf?src-supplier=Avnet; ComponentLink11Description: https://datasheet.ciiva.com/3121/5025700893-memory-card-socket-3121179.pdf?src-supplier=Avnet; Supplier Part Number 1: WM19093CT-ND
footprint MOLEX_5025700893
pins: 1 DAT2 (io), 2 DAT3/CD (io), 3 CMD (io), 4 VDD (power), 5 CLK (io), 6 VSS (power), 7 DAT0 (io), 8 DAT1 (io), 9 DET_LEVER, 10 DET_SW

## Micro USB
designator J?, comment 105017-0001
Conn USB Type B M 5 POS 0.65mm Solder RA Thru-Hole 5 Terminal 1 Port Embossed T/R; Manufacturer Part Number 1: 1050170001; MF: Molex; Gender: Receptacle; Current Rating: 1.8A; Voltage Rating (AC): 30V; Connector Type: USB,Receptacle; Number of Ports: 1; Number of Contacts: 5; USB Standard: USB 2.0; Mating Cycles: 10000; Shielding: Shielded; Package: None; MP: 105017-0001; Availability: Good; Price: 0.50 USD; Value: *; Supplier 1: Mouser; Manufacturer 1: Molex; Stock 1: 26919; Pricing 1: 1=0,78000, 10=0,70100, 50=0,70100, 100=0,60000, 250=0,54300, 500=0,50000, 1000=0,42900, 2000=0,41500, 10000=0,41500 (USD); RoHS: Yes; Mount: Surface Mount,Through Hole; Contact Plating: Gold; Contact Material: Copper Alloy,Copper; Number of Terminals: 5; Housing Material: Polymer; Insulation Color: Black; Min Operating Temperature: -30°C; Max Operating Temperature: 85°C; Packaging: Tape and Reel; Package Quantity: 2000; Termination: Solder; Max Voltage Rating (AC): 30V; Voltage Rating: 30V; Number of Positions: 5; Orientation: Right Angle; Number of Circuits: 5; Features: Shielded; Length: 8.2mm; Pitch: 0.65mm; Depth: 7.5mm; Radiation Hardening: No; REACH SVHC: Unknown; Halogen Free: Low Halogen; Flammability Rating: UL94 V-0; ComponentLink1URL: https://datasheet.ciiva.com/851/1050170001-sd-851276.pdf?src-supplier=Digi-Key; ComponentLink1Description: https://datasheet.ciiva.com/851/1050170001-sd-851276.pdf?src-supplier=Digi-Key; ComponentLink2URL: https://datasheet.ciiva.com/5742/1598502-5742508.pdf?src-supplier=Farnell; ComponentLink2Description: https://datasheet.ciiva.com/5742/1598502-5742508.pdf?src-supplier=Farnell; ComponentLink3URL: https://datasheet.ciiva.com/3094/1050170001-io-connectors-3094416.pdf?src-supplier=Avnet; ComponentLink3Description: https://datasheet.ciiva.com/3094/1050170001-io-connectors-3094416.pdf?src-supplier=Avnet; ComponentLink4URL: https://datasheet.ciiva.com/4598/1050170001-io-connectors-152207-4598759.pdf?src-supplier=Mouser; ComponentLink4Description: https://datasheet.ciiva.com/4598/1050170001-io-connectors-152207-4598759.pdf?src-supplier=Mouser; ComponentLink5URL: https://datasheet.ciiva.com/8015/1631959-8015288.pdf?src-supplier=Element14; ComponentLink5Description: https://datasheet.ciiva.com/8015/1631959-8015288.pdf?src-supplier=Element14; ComponentLink6URL: https://datasheet.ciiva.com/22654/1688140-22654924.pdf?src-supplier=Element14; ComponentLink6Description: https://datasheet.ciiva.com/22654/1688140-22654924.pdf?src-supplier=Element14; ComponentLink7URL: https://datasheet.ciiva.com/30165/235271050170001-io-nectors-30165183.pdf?src-supplier=Onlinecomponents.com; ComponentLink7Description: https://datasheet.ciiva.com/30165/235271050170001-io-nectors-30165183.pdf?src-supplier=Onlinecomponents.com; ComponentLink8URL: https://datasheet.ciiva.com/851/1050170001-sd-851277.pdf?src-supplier=Digi-Key; ComponentLink8Description: https://datasheet.ciiva.com/851/1050170001-sd-851277.pdf?src-supplier=Digi-Key; ComponentLink9URL: https://datasheet.ciiva.com/16668/1050170001-io-connectors-16668598.pdf?src-supplier=Avnet+Europe; ComponentLink9Description: https://datasheet.ciiva.com/16668/1050170001-io-connectors-16668598.pdf?src-supplier=Avnet+Europe; ComponentLink10URL: https://datasheet.ciiva.com/851/1050170001-sd-851278.pdf?src-supplier=Digi-Key; ComponentLink10Description: https://datasheet.ciiva.com/851/1050170001-sd-851278.pdf?src-supplier=Digi-Key; Supplier Part Number 1: 538-105017-0001
footprint MOLEX_105017-0001
pins: 1 VDD (power), 2 D- (io), 3 D+ (io), 4 ID, 5 GND (power)

## MMDT3904-7-F
designator U?
TRANSISTOR, ARRAY, DUAL NPN, 40V, 200mA, SOT-363-6, FULL REEL; Manufacturer 1: Diodes; Max Power Dissipation: 200mW; Collector Base Voltage (VCBO): 60V; hFE Min: 100; Frequency: 300MHz; Number of Elements: 2; Emitter Base Voltage (VEBO): 6V; Collector Emitter Saturation Voltage: 300mV; Turn-On Delay Time: 70ns; Turn-Off Delay Time: 250ns; Supplier 1: Digi-Key; Manufacturer Part Number 1: MMDT3904-7-F; Stock 1: 128767; Pricing 1: 1=0,28000, 10=0,23300, 100=0,12330, 500=0,08112, 1000=0,05516 (USD); RoHS: Yes; Mount: Surface Mount; Case/Package: SOT-363; Number of Pins: 6; Weight: 0.000212oz; Number of Terminals: 6; Min Operating Temperature: -55°C; Max Operating Temperature: 150°C; Collector Emitter Voltage (VCEO): 40V; Max Collector Current: 200mA; Polarity: NPN; Package Quantity: 1; Packaging: Tape and Reel; Transition Frequency: 300MHz; Collector Emitter Breakdown Voltage: 40V; Max Breakdown Voltage: 40V; Continuous Collector Current: 200mA; Power Dissipation: 200mW; Max Frequency: 300MHz; Element Configuration: Dual; Gain Bandwidth Product: 300MHz; Voltage Rating (DC): 40V; Current Rating: 200mA; Length: 2.2mm; Height: 1mm; Width: 1.35mm; Radiation Hardening: No; REACH SVHC: No SVHC; Lead Free: Lead Free; ComponentLink1URL: https://datasheet.ciiva.com/11198/ds30088-11198646.pdf?src-supplier=Avnet; ComponentLink1Description: https://datasheet.ciiva.com/11198/ds30088-11198646.pdf?src-supplier=Avnet; ComponentLink2URL: https://datasheet.ciiva.com/15138/getdatasheetpartid-35717-15138590.pdf?src-supplier=Verical; ComponentLink2Description: https://datasheet.ciiva.com/15138/getdatasheetpartid-35717-15138590.pdf?src-supplier=Verical; ComponentLink3URL: https://datasheet.ciiva.com/34302/1591025-34302607.pdf?src-supplier=Jameco; ComponentLink3Description: https://datasheet.ciiva.com/34302/1591025-34302607.pdf?src-supplier=Jameco; ComponentLink4URL: https://datasheet.ciiva.com/4723/ds30088-4723579.pdf?src-supplier=Mouser; ComponentLink4Description: https://datasheet.ciiva.com/4723/ds30088-4723579.pdf?src-supplier=Mouser; ComponentLink5URL: https://datasheet.ciiva.com/8029/ds30088-8029724.pdf?src-supplier=Element14; ComponentLink5Description: https://datasheet.ciiva.com/8029/ds30088-8029724.pdf?src-supplier=Element14; ComponentLink6URL: https://datasheet.ciiva.com/11207/ds30088-11207885.pdf?src-supplier=Avnet; ComponentLink6Description: https://datasheet.ciiva.com/11207/ds30088-11207885.pdf?src-supplier=Avnet; Supplier 2: Mouser; Manufacturer 2: Diodes; Manufacturer Part Number 2: MMDT3904-7-F; Stock 2: 36237; Pricing 2: 1=0,36000, 10=0,25500, 50=0,25500, 100=0,11800, 1000=0,09000, 3000=0,07700, 9000=0,07000, 10000=0,07000, 24000=0,06600 (USD); Supplier Part Number 1: MMDT3904-FDICT-ND; Supplier Part Number 2: 621-MMDT3904-F
footprint *SOT65P210X110-6N
pins: 1 E2, 2 B2, 3 C1, 4 E1, 5 B1, 6 C2

## MPZ1608S221ATA00
designator FB?
Ferrite Bead Multi-Layer 220Ohm 25% 100MHz Ferrite 2.2A 0603 Punched Paper T/R; Manufacturer 1: TDK; Impedance: 220R; DC Resistance (DCR): 50mR; Supplier 1: Digi-Key; Manufacturer Part Number 1: MPZ1608S221ATA00; Stock 1: 578094; Pricing 1: 1=0,10000, 10=0,07900, 25=0,07160, 50=0,06440, 100=0,04720, 250=0,03432, 500=0,03146, 1000=0,02717 (USD); RoHS: Yes; Mount: Surface Mount; Case/Package: 0603; Number of Pins: 2; Case Code (Metric): 1608; Case Code (Imperial): 0603; Core Material: Ferrite; Current Rating: 2.2A; Packaging: Cut Tape; Tolerance: 25%; Package Quantity: 1; Max DC Current: 2.2A; Length: 0.063inch; Height: 0.037inch; Width: 0.031inch; REACH SVHC: No SVHC; Lead Free: Lead Free; ComponentLink1URL: https://datasheet.ciiva.com/8077/55167-8077073.pdf?src-supplier=Element14; ComponentLink1Description: https://datasheet.ciiva.com/8077/55167-8077073.pdf?src-supplier=Element14; ComponentLink2URL: https://datasheet.ciiva.com/46366/print-detail-pdf-phplangenpart-nompz1608s221ata00nreimp-unit-xmhz-46366044.pdf?src-supplier=Onlinecomponents.com; ComponentLink2Description: https://datasheet.ciiva.com/46366/print-detail-pdf-phplangenpart-nompz1608s221ata00nreimp-unit-xmhz-46366044.pdf?src-supplier=Onlinecomponents.com; ComponentLink3URL: https://datasheet.ciiva.com/46381/1486324-46381628.pdf?src-supplier=Element14; ComponentLink3Description: https://datasheet.ciiva.com/46381/1486324-46381628.pdf?src-supplier=Element14; ComponentLink4URL: https://datasheet.ciiva.com/8077/55167-8077071.pdf?src-supplier=Element14; ComponentLink4Description: https://datasheet.ciiva.com/8077/55167-8077071.pdf?src-supplier=Element14; Supplier 2: Mouser; Manufacturer 2: TDK; Manufacturer Part Number 2: MPZ1608S221ATA00; Stock 2: 146793; Pricing 2: 1=0,10000, 10=0,07800, 50=0,07800, 100=0,04700, 500=0,03100, 1000=0,02700, 4000=0,02000, 10000=0,02000 (USD); Supplier Part Number 1: 445-1565-1-ND; Supplier Part Number 2: 810-MPZ1608S221ATA00
footprint *0603
pins: 1, 2

## MTFC4GACAAAM-1M_WT
designator U?
J54A eMMC 32G ECCN: 3A991 / HTS: 8542.32.0070; Manufacturer 1: Micron Technology; Manufacturer Part Number 1: MTFC4GACAJCN-4MITTR; Supplier 1: Mouser; Stock 1: 4219; Pricing 1: 1=10,20000, 10=9,40000, 25=9,21000, 50=9,16000, 100=8,23000, 250=7,98000, 500=7,58000, 1000=6,66000, 2000=6,17000, 10000=6,66000 (USD); RoHS: No; Supplier Part Number 1: 340-294892-REEL
footprint *BGA153N50P14X14_1150X1300X100_MTFC4GACAAAM-1M_WT(Primary)
pins: A3 DAT0 (io), A4 DAT1 (io), A5 DAT2 (io), A6 VSS (power), B2 DAT3 (io), B3 DAT4 (io), B4 DAT5 (io), B5 DAT6 (io), B6 DAT7 (io), C2 VDDIM (power), C4 VSSQ (power), C6 VCCQ (power), E6 VCC (power), E7 VSS (power), F5 VCC (power), G5 VSS (power), H10 VSS (power), J5 VSS (power), J10 VCC (power), K5 RST_N (in), K8 VSS (power), K9 VCC (power), M4 VCCQ (power), M5 CMD (io), M6 CLK (in), N2 VSSQ (power), N4 VCCQ (power), N5 VSSQ (power), P3 VCCQ (power), P4 VSSQ (power), P5 VCCQ (power), P6 VSSQ (power)